# EAGLE library part MIMXRT1052DVL6A (library MIMXRT1052DVL6A)
MIMXRT1052: 3.3 V 600 MHz ARM® Cortex®-M7 Microprocessor IC
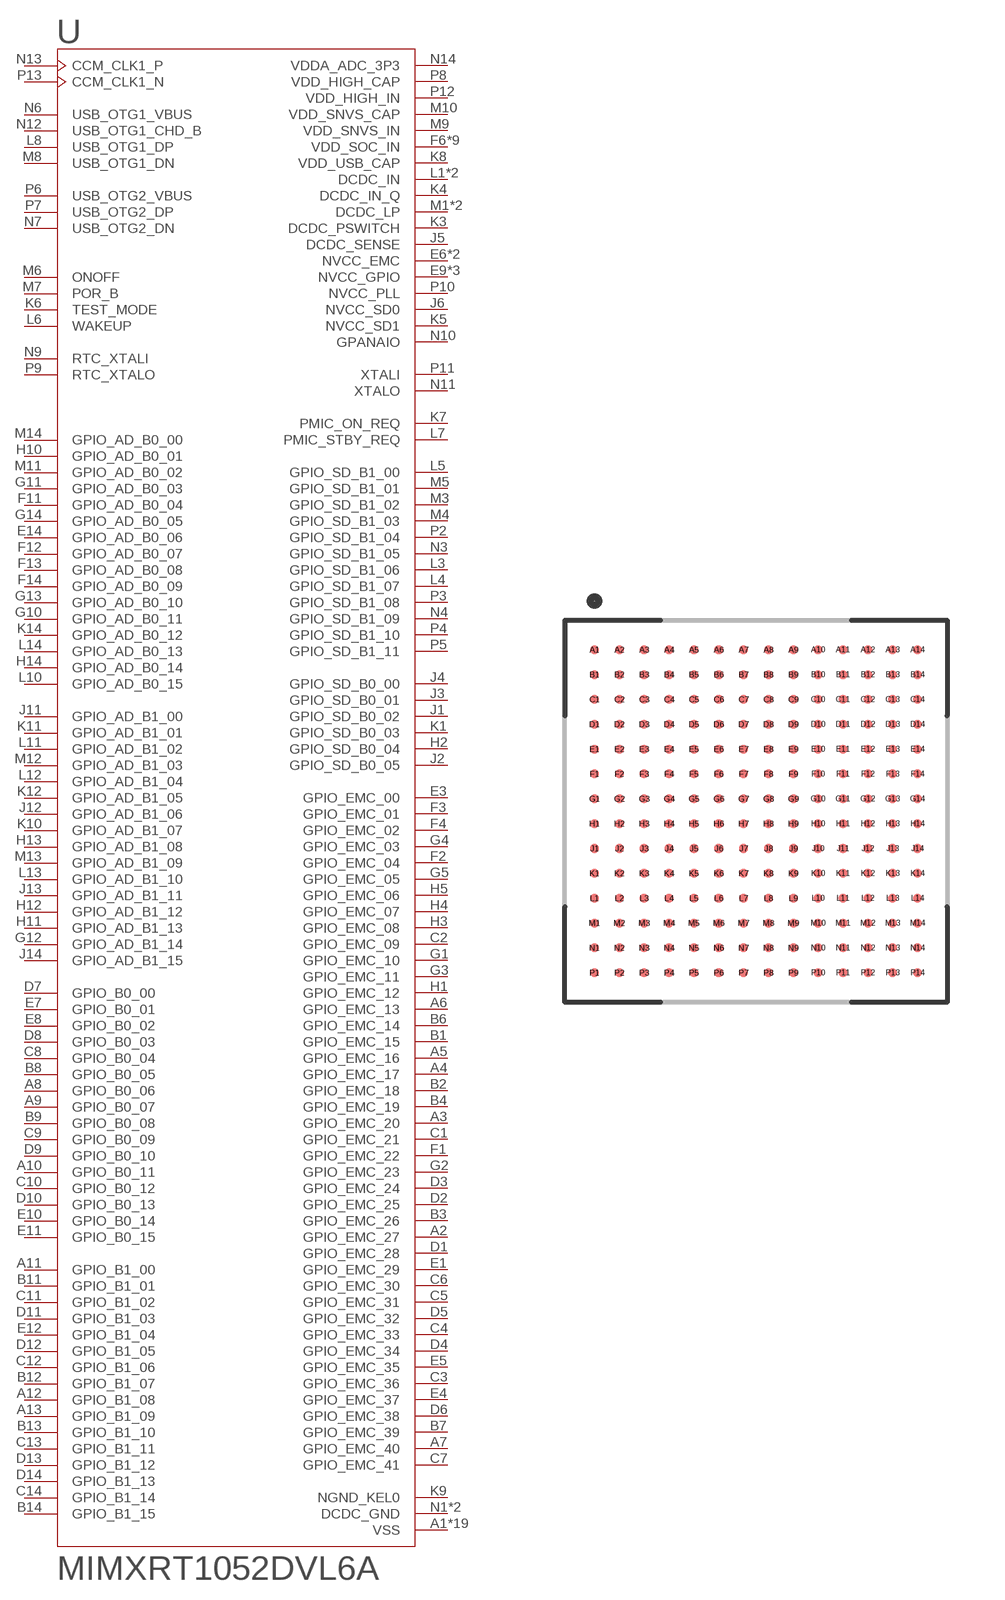
[diagram p0: symbol with the pads of BGA196C65P14X14_1000X1000X152N; footprint BGA196C65P14X14_1000X1000X152N]

Designator prefix U

## MIMXRT1052DVL6A (Description: MIMXRT1052: 3.3 V 600 MHz ARM® Cortex®-M7 Microprocessor IC; Digi-Key_Part_Number: 568-13515-ND; Digi-Key_Purchase_URL: https://www.digikey.com/product-detail/en/nxp-usa-inc/MIMXRT1052DVL6A/568-13515-ND/7646297?utm_source=snapeda&utm_medium=aggregator&utm_campaign=symbol; MF: NXP USA; MP: MIMXRT1052DVL6A; Package: LFBGA-196 NXP Semiconductors)  [BGA196C65P14X14_1000X1000X152N]
A1  VSS  pwr
A2  GPIO_EMC_27
A3  GPIO_EMC_20
A4  GPIO_EMC_17
A5  GPIO_EMC_16
A6  GPIO_EMC_13
A7  GPIO_EMC_40
A8  GPIO_B0_06
A9  GPIO_B0_07
A10  GPIO_B0_11
A11  GPIO_B1_00
A12  GPIO_B1_08
A13  GPIO_B1_09
A14  VSS  pwr
B1  GPIO_EMC_15
B2  GPIO_EMC_18
B3  GPIO_EMC_26
B4  GPIO_EMC_19
B5  VSS  pwr
B6  GPIO_EMC_14
B7  GPIO_EMC_39
B8  GPIO_B0_05
B9  GPIO_B0_08
B10  VSS  pwr
B11  GPIO_B1_01
B12  GPIO_B1_07
B13  GPIO_B1_10
B14  GPIO_B1_15
C1  GPIO_EMC_21
C2  GPIO_EMC_09
C3  GPIO_EMC_36
C4  GPIO_EMC_33
C5  GPIO_EMC_31
C6  GPIO_EMC_30
C7  GPIO_EMC_41
C8  GPIO_B0_04
C9  GPIO_B0_09
C10  GPIO_B0_12
C11  GPIO_B1_02
C12  GPIO_B1_06
C13  GPIO_B1_11
C14  GPIO_B1_14
D1  GPIO_EMC_28
D2  GPIO_EMC_25
D3  GPIO_EMC_24
D4  GPIO_EMC_34
D5  GPIO_EMC_32
D6  GPIO_EMC_38
D7  GPIO_B0_00
D8  GPIO_B0_03
D9  GPIO_B0_10
D10  GPIO_B0_13
D11  GPIO_B1_03
D12  GPIO_B1_05
D13  GPIO_B1_12
D14  GPIO_B1_13
E1  GPIO_EMC_29
E2  VSS  pwr
E3  GPIO_EMC_00
E4  GPIO_EMC_37
E5  GPIO_EMC_35
E6  NVCC_EMC  pwr
E7  GPIO_B0_01
E8  GPIO_B0_02
E9  NVCC_GPIO  pwr
E10  GPIO_B0_14
E11  GPIO_B0_15
E12  GPIO_B1_04
E13  VSS  pwr
E14  GPIO_AD_B0_06
F1  GPIO_EMC_22
F2  GPIO_EMC_04
F3  GPIO_EMC_01
F4  GPIO_EMC_02
F5  NVCC_EMC  pwr
F6  VDD_SOC_IN  pwr
F7  VDD_SOC_IN  pwr
F8  VDD_SOC_IN  pwr
F9  VDD_SOC_IN  pwr
F10  NVCC_GPIO  pwr
F11  GPIO_AD_B0_04
F12  GPIO_AD_B0_07
F13  GPIO_AD_B0_08
F14  GPIO_AD_B0_09
G1  GPIO_EMC_10
G2  GPIO_EMC_23
G3  GPIO_EMC_11
G4  GPIO_EMC_03
G5  GPIO_EMC_05
G6  VDD_SOC_IN  pwr
G7  VSS  pwr
G8  VSS  pwr
G9  VDD_SOC_IN  pwr
G10  GPIO_AD_B0_11
G11  GPIO_AD_B0_03
G12  GPIO_AD_B1_14
G13  GPIO_AD_B0_10
G14  GPIO_AD_B0_05
H1  GPIO_EMC_12
H2  GPIO_SD_B0_04
H3  GPIO_EMC_08
H4  GPIO_EMC_07
H5  GPIO_EMC_06
H6  VDD_SOC_IN  pwr
H7  VSS  pwr
H8  VSS  pwr
H9  VDD_SOC_IN  pwr
H10  GPIO_AD_B0_01
H11  GPIO_AD_B1_13
H12  GPIO_AD_B1_12
H13  GPIO_AD_B1_08
H14  GPIO_AD_B0_14
J1  GPIO_SD_B0_02
J2  GPIO_SD_B0_05
J3  GPIO_SD_B0_01
J4  GPIO_SD_B0_00
J5  DCDC_SENSE  pwr
J6  NVCC_SD0  pwr
J7  VSS  pwr
J8  VSS  pwr
J9  VDD_SOC_IN  pwr
J10  NVCC_GPIO  pwr
J11  GPIO_AD_B1_00
J12  GPIO_AD_B1_06
J13  GPIO_AD_B1_11
J14  GPIO_AD_B1_15
K1  GPIO_SD_B0_03
K2  VSS  pwr
K3  DCDC_PSWITCH  pwr
K4  DCDC_IN_Q  pwr
K5  NVCC_SD1  pwr
K6  TEST_MODE  in
K7  PMIC_ON_REQ  out
K8  VDD_USB_CAP  pwr
K9  NGND_KEL0  pwr
K10  GPIO_AD_B1_07
K11  GPIO_AD_B1_01
K12  GPIO_AD_B1_05
K13  VSS  pwr
K14  GPIO_AD_B0_12
L1  DCDC_IN  pwr
L2  DCDC_IN  pwr
L3  GPIO_SD_B1_06
L4  GPIO_SD_B1_07
L5  GPIO_SD_B1_00
L6  WAKEUP  in
L7  PMIC_STBY_REQ  out
L8  USB_OTG1_DP
L9  VSS  pwr
L10  GPIO_AD_B0_15
L11  GPIO_AD_B1_02
L12  GPIO_AD_B1_04
L13  GPIO_AD_B1_10
L14  GPIO_AD_B0_13
M1  DCDC_LP  pwr
M2  DCDC_LP  pwr
M3  GPIO_SD_B1_02
M4  GPIO_SD_B1_03
M5  GPIO_SD_B1_01
M6  ONOFF  in
M7  POR_B  in
M8  USB_OTG1_DN
M9  VDD_SNVS_IN  pwr
M10  VDD_SNVS_CAP  pwr
M11  GPIO_AD_B0_02
M12  GPIO_AD_B1_03
M13  GPIO_AD_B1_09
M14  GPIO_AD_B0_00
N1  DCDC_GND  pwr
N2  DCDC_GND  pwr
N3  GPIO_SD_B1_05
N4  GPIO_SD_B1_09
N5  VSS  pwr
N6  USB_OTG1_VBUS
N7  USB_OTG2_DN
N8  VSS  pwr
N9  RTC_XTALI  in
N10  GPANAIO  pwr
N11  XTALO  out
N12  USB_OTG1_CHD_B
N13  CCM_CLK1_P  in
N14  VDDA_ADC_3P3  pwr
P1  VSS  pwr
P2  GPIO_SD_B1_04
P3  GPIO_SD_B1_08
P4  GPIO_SD_B1_10
P5  GPIO_SD_B1_11
P6  USB_OTG2_VBUS
P7  USB_OTG2_DP
P8  VDD_HIGH_CAP  pwr
P9  RTC_XTALO  out
P10  NVCC_PLL  pwr
P11  XTALI  in
P12  VDD_HIGH_IN  pwr
P13  CCM_CLK1_N  in
P14  VSS  pwr

## Footprint BGA196C65P14X14_1000X1000X152N (pad centres in mm)
smd 0.24 x 0.24: A1 -4.225,4.225; A2 -3.575,4.225; A3 -2.925,4.225; A4 -2.275,4.225; A5 -1.625,4.225; A6 -0.975,4.225; A7 -0.325,4.225; A8 0.325,4.225; A9 0.975,4.225; A10 1.625,4.225; A11 2.275,4.225; A12 2.925,4.225; A13 3.575,4.225; A14 4.225,4.225; B1 -4.225,3.575; B2 -3.575,3.575; B3 -2.925,3.575; B4 -2.275,3.575; B5 -1.625,3.575; B6 -0.975,3.575; B7 -0.325,3.575; B8 0.325,3.575; B9 0.975,3.575; B10 1.625,3.575; B11 2.275,3.575; B12 2.925,3.575; B13 3.575,3.575; B14 4.225,3.575; C1 -4.225,2.925; C2 -3.575,2.925; C3 -2.925,2.925; C4 -2.275,2.925; C5 -1.625,2.925; C6 -0.975,2.925; C7 -0.325,2.925; C8 0.325,2.925; C9 0.975,2.925; C10 1.625,2.925; C11 2.275,2.925; C12 2.925,2.925; C13 3.575,2.925; C14 4.225,2.925; D1 -4.225,2.275; D2 -3.575,2.275; D3 -2.925,2.275; D4 -2.275,2.275; D5 -1.625,2.275; D6 -0.975,2.275; D7 -0.325,2.275; D8 0.325,2.275; D9 0.975,2.275; D10 1.625,2.275; D11 2.275,2.275; D12 2.925,2.275; D13 3.575,2.275; D14 4.225,2.275; E1 -4.225,1.625; E2 -3.575,1.625; E3 -2.925,1.625; E4 -2.275,1.625; E5 -1.625,1.625; E6 -0.975,1.625; E7 -0.325,1.625; E8 0.325,1.625; E9 0.975,1.625; E10 1.625,1.625; E11 2.275,1.625; E12 2.925,1.625; E13 3.575,1.625; E14 4.225,1.625; F1 -4.225,0.975; F2 -3.575,0.975; F3 -2.925,0.975; F4 -2.275,0.975; F5 -1.625,0.975; F6 -0.975,0.975; F7 -0.325,0.975; F8 0.325,0.975; F9 0.975,0.975; F10 1.625,0.975; F11 2.275,0.975; F12 2.925,0.975; F13 3.575,0.975; F14 4.225,0.975; G1 -4.225,0.325; G2 -3.575,0.325; G3 -2.925,0.325; G4 -2.275,0.325; G5 -1.625,0.325; G6 -0.975,0.325; G7 -0.325,0.325; G8 0.325,0.325; G9 0.975,0.325; G10 1.625,0.325; G11 2.275,0.325; G12 2.925,0.325; G13 3.575,0.325; G14 4.225,0.325; H1 -4.225,-0.325; H2 -3.575,-0.325; H3 -2.925,-0.325; H4 -2.275,-0.325; H5 -1.625,-0.325; H6 -0.975,-0.325; H7 -0.325,-0.325; H8 0.325,-0.325; H9 0.975,-0.325; H10 1.625,-0.325; H11 2.275,-0.325; H12 2.925,-0.325; H13 3.575,-0.325; H14 4.225,-0.325; J1 -4.225,-0.975; J2 -3.575,-0.975; J3 -2.925,-0.975; J4 -2.275,-0.975; J5 -1.625,-0.975; J6 -0.975,-0.975; J7 -0.325,-0.975; J8 0.325,-0.975; J9 0.975,-0.975; J10 1.625,-0.975; J11 2.275,-0.975; J12 2.925,-0.975; J13 3.575,-0.975; J14 4.225,-0.975; K1 -4.225,-1.625; K2 -3.575,-1.625; K3 -2.925,-1.625; K4 -2.275,-1.625; K5 -1.625,-1.625; K6 -0.975,-1.625; K7 -0.325,-1.625; K8 0.325,-1.625; K9 0.975,-1.625; K10 1.625,-1.625; K11 2.275,-1.625; K12 2.925,-1.625; K13 3.575,-1.625; K14 4.225,-1.625; L1 -4.225,-2.275; L2 -3.575,-2.275; L3 -2.925,-2.275; L4 -2.275,-2.275; L5 -1.625,-2.275; L6 -0.975,-2.275; L7 -0.325,-2.275; L8 0.325,-2.275; L9 0.975,-2.275; L10 1.625,-2.275; L11 2.275,-2.275; L12 2.925,-2.275; L13 3.575,-2.275; L14 4.225,-2.275; M1 -4.225,-2.925; M2 -3.575,-2.925; M3 -2.925,-2.925; M4 -2.275,-2.925; M5 -1.625,-2.925; M6 -0.975,-2.925; M7 -0.325,-2.925; M8 0.325,-2.925; M9 0.975,-2.925; M10 1.625,-2.925; M11 2.275,-2.925; M12 2.925,-2.925; M13 3.575,-2.925; M14 4.225,-2.925; N1 -4.225,-3.575; N2 -3.575,-3.575; N3 -2.925,-3.575; N4 -2.275,-3.575; N5 -1.625,-3.575; N6 -0.975,-3.575; N7 -0.325,-3.575; N8 0.325,-3.575; N9 0.975,-3.575; N10 1.625,-3.575; N11 2.275,-3.575; N12 2.925,-3.575; N13 3.575,-3.575; N14 4.225,-3.575; P1 -4.225,-4.225; P2 -3.575,-4.225; P3 -2.925,-4.225; P4 -2.275,-4.225; P5 -1.625,-4.225; P6 -0.975,-4.225; P7 -0.325,-4.225; P8 0.325,-4.225; P9 0.975,-4.225; P10 1.625,-4.225; P11 2.275,-4.225; P12 2.925,-4.225; P13 3.575,-4.225; P14 4.225,-4.225